# Altium footprint library LC-SOIC-8_150mil.PcbLib: 1 footprints
Each footprint in its own frame and in the unit in brackets; x right, y up, seen from the top. Pads: shape width x height; smd on the part's side, far side on the other; paste and mask are expansions set on the pad; w line width, h text height; cw(c..) or ccw(c..) is an arc to the next point about the centre after c.
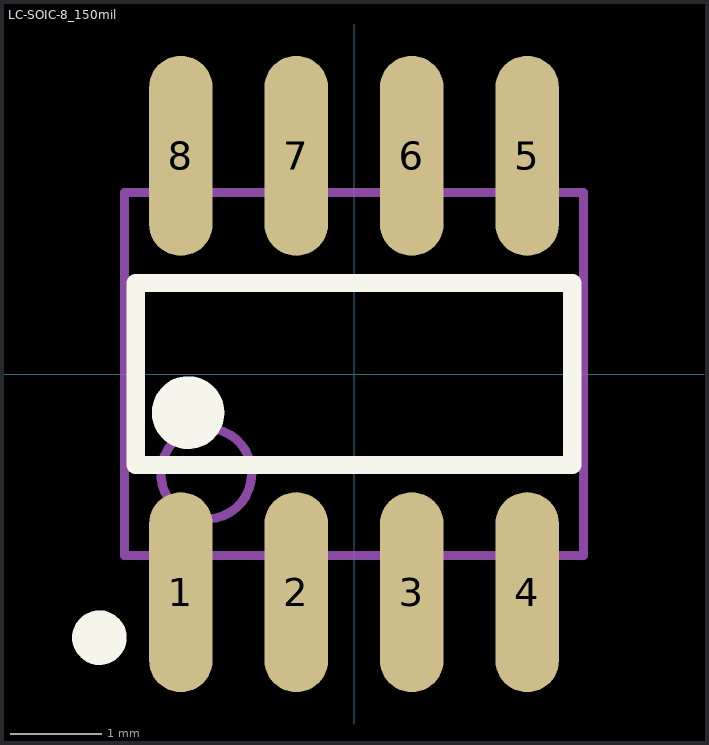
[diagram p0: the footprint, top view; thin cyan lines are the x and y axes]

## LC-SOIC-8_150mil [mm]
pads (8):
  oval 0.7x2.2 smd: 1(-1.905,-2.4) 2(-0.635,-2.4) 3(0.635,-2.4) 4(1.905,-2.4) 5(1.905,2.4) 6(0.635,2.4) 7(-0.635,2.4) 8(-1.905,2.4)
Top Overlay:
  circle w0.4: c-1.825,-0.425 r0.2
  circle w0.3: c-2.8,-2.9 r0.15
  lines w0.2: -2.4,-1 -2.4,1 2.4,1 2.4,-1 -2.4,-1
Mechanical 13:
  circle w0.1: c-1.625,-1.095 r0.5
  lines w0.1: -2.525,-1.995 -2.525,1.995 2.525,1.995 2.525,-1.995 -2.525,-1.995